# EAGLE library part CCS811 (library project_02_lib)
CCS811 based a specific layout sold on Amazon. May be discontinued in favor of the Adafruit design.
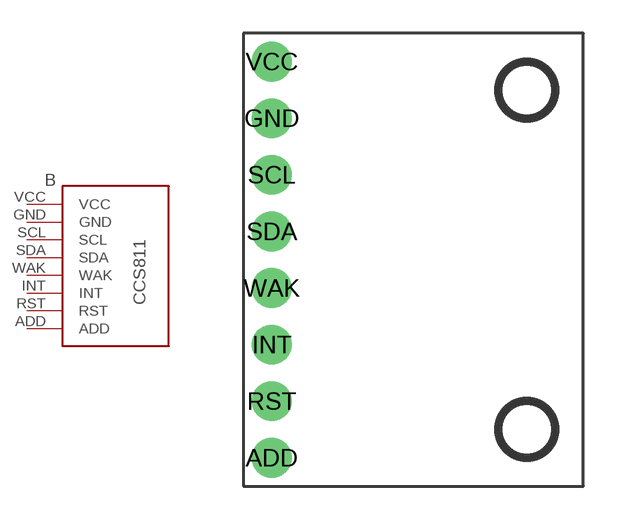
[diagram p1: symbol with the pads of CCS811; footprint CCS811]

Designator prefix B

## CCS811  [CCS811]
ADD  ADD
GND  GND
INT  INT
RST  RST
SCL  SCL
SDA  SDA
VCC  VCC
WAK  WAK

## Footprint CCS811 (pad centres in mm)
drill 1.016 pad 1.778: ADD 0,-17.78; GND 0,-2.54; INT 0,-12.7; RST 0,-15.24; SCL 0,-5.08; SDA 0,-7.62; VCC 0,0; WAK 0,-10.16